# EAGLE library part ATTINY20 (library pimoroni-ics)
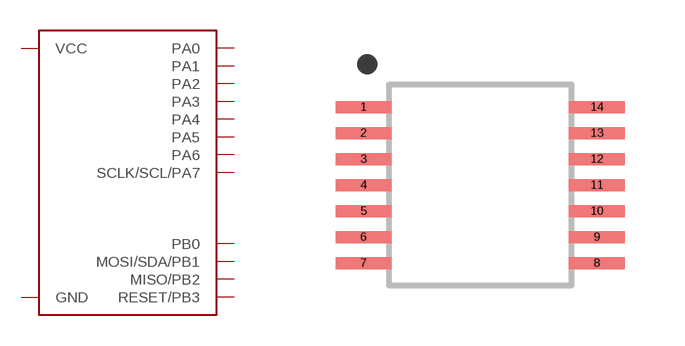
[diagram p11: symbol with the pads of TSSOP-14; footprint TSSOP-14]

Designator prefix -

## ATTINY20-XU  [TSSOP-14]
1  VCC
2  PB0
3  MOSI/SDA/PB1
4  RESET/PB3
5  MISO/PB2
6  SCLK/SCL/PA7
7  PA6
8  PA5
9  PA4
10  PA3
11  PA2
12  PA1
13  PA0
14  GND

## Footprint TSSOP-14 (pad centres in mm)
smd 1.4 x 0.3: 1 -2.918,1.95; 2 -2.918,1.3; 3 -2.918,0.65; 4 -2.918,0; 5 -2.918,-0.65; 6 -2.918,-1.3; 7 -2.918,-1.95; 8 2.918,-1.95; 9 2.918,-1.3; 10 2.918,-0.65; 11 2.918,0; 12 2.918,0.65; 13 2.918,1.3; 14 2.918,1.95